# Altium schematic symbol library 08B0-1X1T-36-F.SchLib: 1 symbol
Pins are listed as number, name and electrical type; pins without a type are passive.

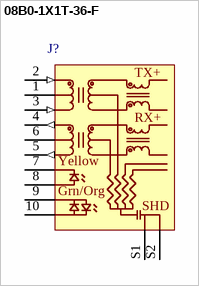
[diagram p0: symbol 08B0-1X1T-36-F]

## 08B0-1X1T-36-F
designator J?  (value not drawn)
pins: 1 TCT, 2 TD_P (in), 3 TD_N (in), 4 RD_P (out), 5 RD_N (out), 6 RCT, 7 YEL_K, 8 YEL_A, 9 GRN_K/ORG_A, 10 GRN_A/ORG_K, S1 SHIELD, S2 SHIELD
text: TX+; RX+; Yellow; Grn/Org; SHD